# Altium footprint library con-lstb.PCBLIB: 41 footprints (part 2 of 3)
Each footprint in its own frame and in the unit in brackets; x right, y up, seen from the top. Pads: shape width x height; smd on the part's side, far side on the other; paste and mask are expansions set on the pad; w line width, h text height; cw(c..) or ccw(c..) is an arc to the next point about the centre after c.
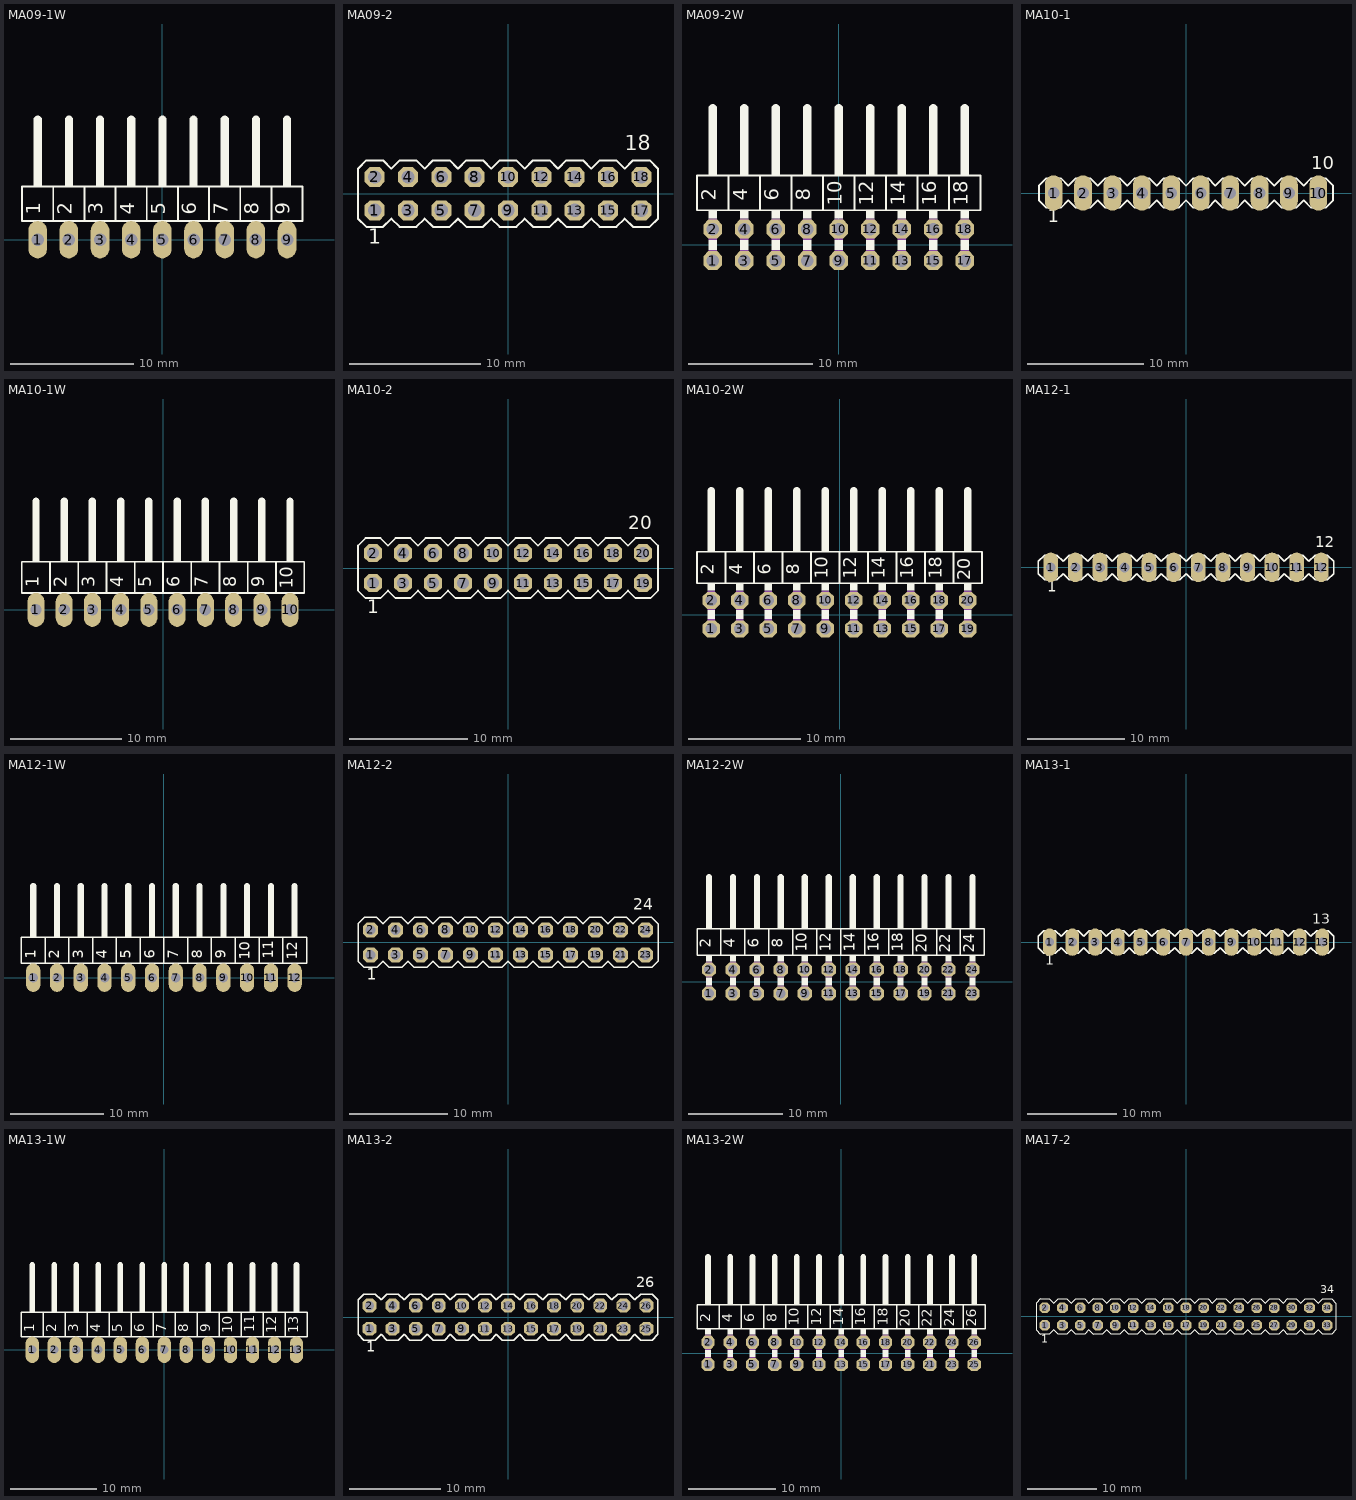
[diagram p1: the footprints below, top view; thin cyan lines are the x and y axes]

## MA09-1W [mil]
pads (9):
  oval 60x120 hole 40: 1(-400,0) 2(-300,0) 3(-200,0) 4(-100,0) 5(0,0) 6(100,0) 7(200,0) 8(300,0) 9(400,0)
Top Overlay:
  rectangle: 87,170 113,200
  rectangle: 187,170 213,200
  rectangle: 287,170 313,200
  rectangle: 387,170 413,200
  rectangle: -413,170 -387,200
  rectangle: -313,170 -287,200
  rectangle: -213,170 -187,200
  rectangle: -113,170 -87,200
  rectangle: -13,170 13,200
  rectangle: 387,34 413,60
  rectangle: 287,34 313,60
  rectangle: 187,34 213,60
  rectangle: 87,34 113,60
  rectangle: -13,34 13,60
  rectangle: -113,34 -87,60
  rectangle: -213,34 -187,60
  rectangle: -313,34 -287,60
  rectangle: -413,34 -387,60
  lines w6: -350,60 -350,170 ; -350,60 -450,60 -450,170 -350,170 ; -350,60 -250,60 ; -350,170 -250,170 ; -250,60 -150,60 ; -250,60 -250,170 ; -250,170 -150,170 ; -150,60 -50,60 ; -150,60 -150,170 ; -150,170 -50,170 ; -50,60 50,60 ; -50,60 -50,170 ; -50,170 50,170 ; 50,60 150,60 ; 50,60 50,170 ; 50,170 150,170 ; 150,60 150,170 ; 150,60 250,60 ; 150,170 250,170 ; 250,60 350,60 ; 250,60 250,170 ; 250,170 350,170 ; 350,60 450,60 450,170 350,170 ; 350,60 350,170
  lines w26: -400,200 -400,385 ; -300,200 -300,385 ; -200,200 -200,385 ; -100,200 -100,385 ; 0,200 0,385 ; 100,200 100,385 ; 200,200 200,385 ; 300,200 300,385 ; 400,200 400,385
  text "1" at -375,80 h77.5
  text "2" at -275,80 h77.5
  text "3" at -175,80 h77.5
  text "4" at -75,80 h77.5
  text "5" at 25,80 h77.5
  text "6" at 125,80 h77.5
  text "7" at 225,80 h77.5
  text "8" at 325,80 h77.5
  text "9" at 425,80 h77.5
Mechanical 16:
  rectangle: 387,-13 413,34
  rectangle: 287,-13 313,34
  rectangle: 187,-13 213,34
  rectangle: 87,-13 113,34
  rectangle: -13,-13 13,34
  rectangle: -113,-13 -87,34
  rectangle: -213,-13 -187,34
  rectangle: -313,-13 -287,34
  rectangle: -413,-13 -387,34

## MA09-2 [mil]
pads (18):
  oct 60x60 hole 40: 1(-400,-50) 2(-400,50) 3(-300,-50) 4(-300,50) 5(-200,-50) 6(-200,50) 7(-100,-50) 8(-100,50) 9(0,-50) 10(0,50) 11(100,-50) 12(100,50) 13(200,-50) 14(200,50) 15(300,-50) 16(300,50) 17(400,-50) 18(400,50)
Top Overlay:
  lines w6: -450,-75 -450,75 -425,100 -375,100 -350,75 -325,100 -275,100 -250,75 -225,100 -175,100 -150,75 -125,100 -75,100 -50,75 -25,100 25,100 50,75 75,100 125,100 150,75 175,100 225,100 250,75 275,100 325,100 350,75 375,100 425,100 450,75 450,-75 425,-100 375,-100 350,-75 325,-100 275,-100 250,-75 225,-100 175,-100 150,-75 125,-100 75,-100 50,-75 25,-100 -25,-100 -50,-75 -75,-100 -125,-100 -150,-75 -175,-100 -225,-100 -250,-75 -275,-100 -325,-100 -350,-75 -375,-100 -425,-100 -450,-75
  text "1" at -420,-165 h77.5
  text "18" at 350,115 h77.5
Mechanical 16:
  rectangle: -310,-60 -290,-40
  rectangle: -410,-60 -390,-40
  rectangle: -210,-60 -190,-40
  rectangle: -10,-60 10,-40
  rectangle: -110,-60 -90,-40
  rectangle: 90,-60 110,-40
  rectangle: -410,40 -390,60
  rectangle: -310,40 -290,60
  rectangle: -210,40 -190,60
  rectangle: -110,40 -90,60
  rectangle: -10,40 10,60
  rectangle: 90,40 110,60
  rectangle: 290,-60 310,-40
  rectangle: 190,-60 210,-40
  rectangle: 190,40 210,60
  rectangle: 290,40 310,60
  rectangle: 390,40 410,60
  rectangle: 390,-60 410,-40

## MA09-2W [mil]
pads (18):
  oct 60x60 hole 40: 1(-400,-50) 2(-400,50) 3(-300,-50) 4(-300,50) 5(-200,-50) 6(-200,50) 7(-100,-50) 8(-100,50) 9(0,-50) 10(0,50) 11(100,-50) 12(100,50) 13(200,-50) 14(200,50) 15(300,-50) 16(300,50) 17(400,-50) 18(400,50)
Top Overlay:
  rectangle: 87,220 113,250
  rectangle: 187,220 213,250
  rectangle: 287,220 313,250
  rectangle: 387,220 413,250
  rectangle: -413,220 -387,250
  rectangle: -313,220 -287,250
  rectangle: -213,220 -187,250
  rectangle: -113,220 -87,250
  rectangle: -13,220 13,250
  rectangle: 387,84 413,110
  rectangle: 287,84 313,110
  rectangle: 187,84 213,110
  rectangle: 87,84 113,110
  rectangle: -13,84 13,110
  rectangle: -113,84 -87,110
  rectangle: -213,84 -187,110
  rectangle: -313,84 -287,110
  rectangle: -413,84 -387,110
  rectangle: -413,-16 -387,16
  rectangle: -313,-16 -287,16
  rectangle: -213,-16 -187,16
  rectangle: -113,-16 -87,16
  rectangle: -13,-16 13,16
  rectangle: 87,-16 113,16
  rectangle: 187,-16 213,16
  rectangle: 287,-16 313,16
  rectangle: 387,-16 413,16
  lines w6: -350,110 -350,220 ; -350,110 -450,110 -450,220 -350,220 ; -350,110 -250,110 ; -350,220 -250,220 ; -250,110 -150,110 ; -250,110 -250,220 ; -250,220 -150,220 ; -150,110 -50,110 ; -150,110 -150,220 ; -150,220 -50,220 ; -50,110 50,110 ; -50,110 -50,220 ; -50,220 50,220 ; 50,110 150,110 ; 50,110 50,220 ; 50,220 150,220 ; 150,110 150,220 ; 150,110 250,110 ; 150,220 250,220 ; 250,110 350,110 ; 250,110 250,220 ; 250,220 350,220 ; 350,110 450,110 450,220 350,220 ; 350,110 350,220
  lines w26: -400,250 -400,435 ; -300,250 -300,435 ; -200,250 -200,435 ; -100,250 -100,435 ; 0,250 0,435 ; 100,250 100,435 ; 200,250 200,435 ; 300,250 300,435 ; 400,250 400,435
  text "18" at 425,125 h77.5
  text "16" at 325,125 h77.5
  text "14" at 225,125 h77.5
  text "12" at 125,125 h77.5
  text "10" at 25,125 h77.5
  text "8" at -75,140 h77.5
  text "6" at -175,140 h77.5
  text "4" at -275,140 h77.5
  text "2" at -375,140 h77.5
Mechanical 16:
  rectangle: -413,16 -387,84
  rectangle: -413,-62 -387,-16
  rectangle: -313,16 -287,84
  rectangle: -313,-62 -287,-16
  rectangle: -213,16 -187,84
  rectangle: -213,-62 -187,-16
  rectangle: -113,16 -87,84
  rectangle: -113,-62 -87,-16
  rectangle: -13,16 13,84
  rectangle: 87,16 113,84
  rectangle: -13,-62 13,-16
  rectangle: 87,-62 113,-16
  rectangle: 187,16 213,84
  rectangle: 187,-62 213,-16
  rectangle: 287,16 313,84
  rectangle: 287,-62 313,-16
  rectangle: 387,16 413,84
  rectangle: 387,-62 413,-16

## MA10-1 [mil]
pads (10):
  oval 60x120 hole 40: 1(-450,0) 2(-350,0) 3(-250,0) 4(-150,0) 5(-50,0) 6(50,0) 7(150,0) 8(250,0) 9(350,0) 10(450,0)
Top Overlay:
  lines w6: -500,-25 -500,25 -475,50 -425,50 -400,25 -375,50 -325,50 -300,25 -275,50 -225,50 -200,25 -175,50 -125,50 -100,25 -75,50 -25,50 0,25 25,50 75,50 100,25 125,50 175,50 200,25 225,50 275,50 300,25 325,50 375,50 400,25 425,50 475,50 500,25 500,-25 475,-50 425,-50 400,-25 375,-50 325,-50 300,-25 275,-50 225,-50 200,-25 175,-50 125,-50 100,-25 75,-50 25,-50 0,-25 -25,-50 -75,-50 -100,-25 -125,-50 -175,-50 -200,-25 -225,-50 -275,-50 -300,-25 -325,-50 -375,-50 -400,-25 -425,-50 -475,-50 -500,-25
  text "1" at -470,-115 h77.5
  text "10" at 425,65 h77.5
Mechanical 16:
  rectangle: -360,-10 -340,10
  rectangle: -460,-10 -440,10
  rectangle: -260,-10 -240,10
  rectangle: -160,-10 -140,10
  rectangle: 40,-10 60,10
  rectangle: -60,-10 -40,10
  rectangle: 140,-10 160,10
  rectangle: 240,-10 260,10
  rectangle: 440,-10 460,10
  rectangle: 340,-10 360,10

## MA10-1W [mil]
pads (10):
  oval 60x120 hole 40: 1(-450,0) 2(-350,0) 3(-250,0) 4(-150,0) 5(-50,0) 6(50,0) 7(150,0) 8(250,0) 9(350,0) 10(450,0)
Top Overlay:
  rectangle: 37,170 63,200
  rectangle: 137,170 163,200
  rectangle: 237,170 263,200
  rectangle: 337,170 363,200
  rectangle: 437,170 463,200
  rectangle: -463,170 -437,200
  rectangle: -363,170 -337,200
  rectangle: -263,170 -237,200
  rectangle: -163,170 -137,200
  rectangle: -63,170 -37,200
  rectangle: 437,34 463,60
  rectangle: 337,34 363,60
  rectangle: 237,34 263,60
  rectangle: 137,34 163,60
  rectangle: 37,34 63,60
  rectangle: -63,34 -37,60
  rectangle: -163,34 -137,60
  rectangle: -263,34 -237,60
  rectangle: -363,34 -337,60
  rectangle: -463,34 -437,60
  lines w6: -400,60 -400,170 ; -400,60 -500,60 -500,170 -400,170 ; -400,60 -300,60 ; -400,170 -300,170 ; -300,60 -200,60 ; -300,60 -300,170 ; -300,170 -200,170 ; -200,60 -100,60 ; -200,60 -200,170 ; -200,170 -100,170 ; -100,60 0,60 ; -100,60 -100,170 ; -100,170 0,170 ; 0,60 100,60 ; 0,60 0,170 ; 0,170 100,170 ; 100,60 100,170 ; 100,60 200,60 ; 100,170 200,170 ; 200,60 300,60 ; 200,60 200,170 ; 200,170 300,170 ; 300,60 400,60 ; 300,60 300,170 ; 300,170 400,170 ; 400,60 500,60 500,170 400,170 ; 400,60 400,170
  lines w26: -450,200 -450,385 ; -350,200 -350,385 ; -250,200 -250,385 ; -150,200 -150,385 ; -50,200 -50,385 ; 50,200 50,385 ; 150,200 150,385 ; 250,200 250,385 ; 350,200 350,385 ; 450,200 450,385
  text "1" at -425,80 h77.5
  text "2" at -325,80 h77.5
  text "3" at -225,80 h77.5
  text "4" at -125,80 h77.5
  text "5" at -25,80 h77.5
  text "6" at 75,80 h77.5
  text "7" at 175,80 h77.5
  text "8" at 275,80 h77.5
  text "9" at 375,80 h77.5
  text "10" at 475,75 h77.5
Mechanical 16:
  rectangle: 437,-13 463,34
  rectangle: 337,-13 363,34
  rectangle: 237,-13 263,34
  rectangle: 137,-13 163,34
  rectangle: 37,-13 63,34
  rectangle: -63,-13 -37,34
  rectangle: -163,-13 -137,34
  rectangle: -263,-13 -237,34
  rectangle: -363,-13 -337,34
  rectangle: -463,-13 -437,34

## MA10-2 [mil]
pads (20):
  oct 60x60 hole 40: 1(-450,-50) 2(-450,50) 3(-350,-50) 4(-350,50) 5(-250,-50) 6(-250,50) 7(-150,-50) 8(-150,50) 9(-50,-50) 10(-50,50) 11(50,-50) 12(50,50) 13(150,-50) 14(150,50) 15(250,-50) 16(250,50) 17(350,-50) 18(350,50) 19(450,-50) 20(450,50)
Top Overlay:
  lines w6: -500,-75 -500,75 -475,100 -425,100 -400,75 -375,100 -325,100 -300,75 -275,100 -225,100 -200,75 -175,100 -125,100 -100,75 -75,100 -25,100 0,75 25,100 75,100 100,75 125,100 175,100 200,75 225,100 275,100 300,75 325,100 375,100 400,75 425,100 475,100 500,75 500,-75 475,-100 425,-100 400,-75 375,-100 325,-100 300,-75 275,-100 225,-100 200,-75 175,-100 125,-100 100,-75 75,-100 25,-100 0,-75 -25,-100 -75,-100 -100,-75 -125,-100 -175,-100 -200,-75 -225,-100 -275,-100 -300,-75 -325,-100 -375,-100 -400,-75 -425,-100 -475,-100 -500,-75
  text "1" at -470,-165 h77.5
  text "20" at 400,115 h77.5
Mechanical 16:
  rectangle: -360,-60 -340,-40
  rectangle: -460,-60 -440,-40
  rectangle: -260,-60 -240,-40
  rectangle: -60,-60 -40,-40
  rectangle: -160,-60 -140,-40
  rectangle: 40,-60 60,-40
  rectangle: -460,40 -440,60
  rectangle: -360,40 -340,60
  rectangle: -260,40 -240,60
  rectangle: -160,40 -140,60
  rectangle: -60,40 -40,60
  rectangle: 40,40 60,60
  rectangle: 240,-60 260,-40
  rectangle: 140,-60 160,-40
  rectangle: 140,40 160,60
  rectangle: 240,40 260,60
  rectangle: 340,40 360,60
  rectangle: 440,40 460,60
  rectangle: 340,-60 360,-40
  rectangle: 440,-60 460,-40

## MA10-2W [mil]
pads (20):
  oct 60x60 hole 40: 1(-450,-50) 2(-450,50) 3(-350,-50) 4(-350,50) 5(-250,-50) 6(-250,50) 7(-150,-50) 8(-150,50) 9(-50,-50) 10(-50,50) 11(50,-50) 12(50,50) 13(150,-50) 14(150,50) 15(250,-50) 16(250,50) 17(350,-50) 18(350,50) 19(450,-50) 20(450,50)
Top Overlay:
  rectangle: 37,220 63,250
  rectangle: 137,220 163,250
  rectangle: 237,220 263,250
  rectangle: 337,220 363,250
  rectangle: 437,220 463,250
  rectangle: -463,220 -437,250
  rectangle: -363,220 -337,250
  rectangle: -263,220 -237,250
  rectangle: -163,220 -137,250
  rectangle: -63,220 -37,250
  rectangle: 437,84 463,110
  rectangle: 337,84 363,110
  rectangle: 237,84 263,110
  rectangle: 137,84 163,110
  rectangle: 37,84 63,110
  rectangle: -63,84 -37,110
  rectangle: -163,84 -137,110
  rectangle: -263,84 -237,110
  rectangle: -363,84 -337,110
  rectangle: -463,84 -437,110
  rectangle: -463,-16 -437,16
  rectangle: -363,-16 -337,16
  rectangle: -263,-16 -237,16
  rectangle: -163,-16 -137,16
  rectangle: -63,-16 -37,16
  rectangle: 37,-16 63,16
  rectangle: 137,-16 163,16
  rectangle: 237,-16 263,16
  rectangle: 337,-16 363,16
  rectangle: 437,-16 463,16
  lines w6: -400,110 -400,220 ; -400,110 -500,110 -500,220 -400,220 ; -400,110 -300,110 ; -400,220 -300,220 ; -300,110 -200,110 ; -300,110 -300,220 ; -300,220 -200,220 ; -200,110 -100,110 ; -200,110 -200,220 ; -200,220 -100,220 ; -100,110 0,110 ; -100,110 -100,220 ; -100,220 0,220 ; 0,110 100,110 ; 0,110 0,220 ; 0,220 100,220 ; 100,110 100,220 ; 100,110 200,110 ; 100,220 200,220 ; 200,110 300,110 ; 200,110 200,220 ; 200,220 300,220 ; 300,110 400,110 ; 300,110 300,220 ; 300,220 400,220 ; 400,110 500,110 500,220 400,220 ; 400,110 400,220
  lines w26: -450,250 -450,435 ; -350,250 -350,435 ; -250,250 -250,435 ; -150,250 -150,435 ; -50,250 -50,435 ; 50,250 50,435 ; 150,250 150,435 ; 250,250 250,435 ; 350,250 350,435 ; 450,250 450,435
  text "20" at 475,120 h77.5
  text "18" at 375,125 h77.5
  text "16" at 275,125 h77.5
  text "14" at 175,125 h77.5
  text "12" at 75,125 h77.5
  text "10" at -25,125 h77.5
  text "8" at -125,140 h77.5
  text "6" at -225,140 h77.5
  text "4" at -325,140 h77.5
  text "2" at -425,140 h77.5
Mechanical 16:
  rectangle: -463,16 -437,84
  rectangle: -463,-62 -437,-16
  rectangle: -363,16 -337,84
  rectangle: -363,-62 -337,-16
  rectangle: -263,16 -237,84
  rectangle: -263,-62 -237,-16
  rectangle: -163,16 -137,84
  rectangle: -163,-62 -137,-16
  rectangle: -63,16 -37,84
  rectangle: 37,16 63,84
  rectangle: -63,-62 -37,-16
  rectangle: 37,-62 63,-16
  rectangle: 137,16 163,84
  rectangle: 137,-62 163,-16
  rectangle: 237,16 263,84
  rectangle: 237,-62 263,-16
  rectangle: 337,16 363,84
  rectangle: 437,16 463,84
  rectangle: 337,-62 363,-16
  rectangle: 437,-62 463,-16

## MA12-1 [mil]
pads (12):
  oval 60x120 hole 40: 1(-550,0) 2(-450,0) 3(-350,0) 4(-250,0) 5(-150,0) 6(-50,0) 7(50,0) 8(150,0) 9(250,0) 10(350,0) 11(450,0) 12(550,0)
Top Overlay:
  lines w6: -600,-25 -600,25 -575,50 -525,50 -500,25 -475,50 -425,50 -400,25 -375,50 -325,50 -300,25 -275,50 -225,50 -200,25 -175,50 -125,50 -100,25 -75,50 -25,50 0,25 25,50 75,50 100,25 125,50 175,50 200,25 225,50 275,50 300,25 325,50 375,50 400,25 425,50 475,50 500,25 525,50 575,50 600,25 600,-25 575,-50 525,-50 500,-25 475,-50 425,-50 400,-25 375,-50 325,-50 300,-25 275,-50 225,-50 200,-25 175,-50 125,-50 100,-25 75,-50 25,-50 0,-25 -25,-50 -75,-50 -100,-25 -125,-50 -175,-50 -200,-25 -225,-50 -275,-50 -300,-25 -325,-50 -375,-50 -400,-25 -425,-50 -475,-50 -500,-25 -525,-50 -575,-50 -600,-25
  text "1" at -565,-115 h77.5
  text "12" at 525,65 h77.5
Mechanical 16:
  rectangle: -460,-10 -440,10
  rectangle: -560,-10 -540,10
  rectangle: -360,-10 -340,10
  rectangle: -160,-10 -140,10
  rectangle: -260,-10 -240,10
  rectangle: -60,-10 -40,10
  rectangle: 140,-10 160,10
  rectangle: 40,-10 60,10
  rectangle: 240,-10 260,10
  rectangle: 440,-10 460,10
  rectangle: 340,-10 360,10
  rectangle: 540,-10 560,10

## MA12-1W [mil]
pads (12):
  oval 60x120 hole 40: 1(-550,0) 2(-450,0) 3(-350,0) 4(-250,0) 5(-150,0) 6(-50,0) 7(50,0) 8(150,0) 9(250,0) 10(350,0) 11(450,0) 12(550,0)
Top Overlay:
  rectangle: 437,170 463,200
  rectangle: 537,170 563,200
  rectangle: -63,170 -37,200
  rectangle: 37,170 63,200
  rectangle: 137,170 163,200
  rectangle: 237,170 263,200
  rectangle: 337,170 363,200
  rectangle: -563,170 -537,200
  rectangle: -463,170 -437,200
  rectangle: -363,170 -337,200
  rectangle: -263,170 -237,200
  rectangle: -163,170 -137,200
  rectangle: 537,34 563,60
  rectangle: 437,34 463,60
  rectangle: 337,34 363,60
  rectangle: 237,34 263,60
  rectangle: 137,34 163,60
  rectangle: 37,34 63,60
  rectangle: -63,34 -37,60
  rectangle: -163,34 -137,60
  rectangle: -263,34 -237,60
  rectangle: -363,34 -337,60
  rectangle: -463,34 -437,60
  rectangle: -563,34 -537,60
  lines w6: -500,60 -500,170 ; -500,60 -600,60 -600,170 -500,170 ; -500,60 -400,60 ; -500,170 -400,170 ; -400,60 -300,60 ; -400,60 -400,170 ; -400,170 -300,170 ; -300,60 -200,60 ; -300,60 -300,170 ; -300,170 -200,170 ; -200,60 -100,60 ; -200,60 -200,170 ; -200,170 -100,170 ; -100,60 0,60 ; -100,60 -100,170 ; -100,170 0,170 ; 0,60 0,170 ; 0,60 100,60 ; 0,170 100,170 ; 100,60 200,60 ; 100,60 100,170 ; 100,170 200,170 ; 200,60 300,60 ; 200,60 200,170 ; 200,170 300,170 ; 300,60 400,60 ; 300,60 300,170 ; 300,170 400,170 ; 400,60 500,60 ; 400,60 400,170 ; 400,170 500,170 ; 500,60 500,170 ; 500,60 600,60 600,170 500,170
  lines w26: -550,200 -550,385 ; -450,200 -450,385 ; -350,200 -350,385 ; -250,200 -250,385 ; -150,200 -150,385 ; -50,200 -50,385 ; 50,200 50,385 ; 150,200 150,385 ; 250,200 250,385 ; 350,200 350,385 ; 450,200 450,385 ; 550,200 550,385
  text "1" at -525,80 h77.5
  text "2" at -425,80 h77.5
  text "3" at -325,80 h77.5
  text "4" at -225,80 h77.5
  text "5" at -125,80 h77.5
  text "6" at -25,80 h77.5
  text "7" at 75,80 h77.5
  text "8" at 175,80 h77.5
  text "9" at 275,80 h77.5
  text "10" at 375,75 h77.5
  text "11" at 475,80 h77.5
  text "12" at 575,75 h77.5
Mechanical 16:
  rectangle: 537,-13 563,34
  rectangle: 437,-13 463,34
  rectangle: 337,-13 363,34
  rectangle: 237,-13 263,34
  rectangle: 137,-13 163,34
  rectangle: 37,-13 63,34
  rectangle: -63,-13 -37,34
  rectangle: -163,-13 -137,34
  rectangle: -263,-13 -237,34
  rectangle: -363,-13 -337,34
  rectangle: -463,-13 -437,34
  rectangle: -563,-13 -537,34

## MA12-2 [mil]
pads (24):
  oct 60x60 hole 40: 1(-550,-50) 2(-550,50) 3(-450,-50) 4(-450,50) 5(-350,-50) 6(-350,50) 7(-250,-50) 8(-250,50) 9(-150,-50) 10(-150,50) 11(-50,-50) 12(-50,50) 13(50,-50) 14(50,50) 15(150,-50) 16(150,50) 17(250,-50) 18(250,50) 19(350,-50) 20(350,50) 21(450,-50) 22(450,50) 23(550,-50) 24(550,50)
Top Overlay:
  lines w6: -600,-75 -600,75 -575,100 -525,100 -500,75 -475,100 -425,100 -400,75 -375,100 -325,100 -300,75 -275,100 -225,100 -200,75 -175,100 -125,100 -100,75 -75,100 -25,100 0,75 25,100 75,100 100,75 125,100 175,100 200,75 225,100 275,100 300,75 325,100 375,100 400,75 425,100 475,100 500,75 525,100 575,100 600,75 600,-75 575,-100 525,-100 500,-75 475,-100 425,-100 400,-75 375,-100 325,-100 300,-75 275,-100 225,-100 200,-75 175,-100 125,-100 100,-75 75,-100 25,-100 0,-75 -25,-100 -75,-100 -100,-75 -125,-100 -175,-100 -200,-75 -225,-100 -275,-100 -300,-75 -325,-100 -375,-100 -400,-75 -425,-100 -475,-100 -500,-75 -525,-100 -575,-100 -600,-75
  text "1" at -565,-165 h77.5
  text "24" at 500,115 h77.5
Mechanical 16:
  rectangle: -460,-60 -440,-40
  rectangle: -560,-60 -540,-40
  rectangle: -360,-60 -340,-40
  rectangle: -160,-60 -140,-40
  rectangle: -260,-60 -240,-40
  rectangle: -60,-60 -40,-40
  rectangle: 140,-60 160,-40
  rectangle: 40,-60 60,-40
  rectangle: 240,-60 260,-40
  rectangle: 440,-60 460,-40
  rectangle: 340,-60 360,-40
  rectangle: 540,-60 560,-40
  rectangle: -560,40 -540,60
  rectangle: -460,40 -440,60
  rectangle: -360,40 -340,60
  rectangle: -260,40 -240,60
  rectangle: -160,40 -140,60
  rectangle: -60,40 -40,60
  rectangle: 40,40 60,60
  rectangle: 140,40 160,60
  rectangle: 240,40 260,60
  rectangle: 340,40 360,60
  rectangle: 440,40 460,60
  rectangle: 540,40 560,60

## MA12-2W [mil]
pads (24):
  oct 60x60 hole 40: 1(-550,-50) 2(-550,50) 3(-450,-50) 4(-450,50) 5(-350,-50) 6(-350,50) 7(-250,-50) 8(-250,50) 9(-150,-50) 10(-150,50) 11(-50,-50) 12(-50,50) 13(50,-50) 14(50,50) 15(150,-50) 16(150,50) 17(250,-50) 18(250,50) 19(350,-50) 20(350,50) 21(450,-50) 22(450,50) 23(550,-50) 24(550,50)
Top Overlay:
  rectangle: 437,220 463,250
  rectangle: 537,220 563,250
  rectangle: -63,220 -37,250
  rectangle: 37,220 63,250
  rectangle: 137,220 163,250
  rectangle: 237,220 263,250
  rectangle: 337,220 363,250
  rectangle: -563,220 -537,250
  rectangle: -463,220 -437,250
  rectangle: -363,220 -337,250
  rectangle: -263,220 -237,250
  rectangle: -163,220 -137,250
  rectangle: 537,84 563,110
  rectangle: 437,84 463,110
  rectangle: 337,84 363,110
  rectangle: 237,84 263,110
  rectangle: 137,84 163,110
  rectangle: 37,84 63,110
  rectangle: -63,84 -37,110
  rectangle: -163,84 -137,110
  rectangle: -263,84 -237,110
  rectangle: -363,84 -337,110
  rectangle: -463,84 -437,110
  rectangle: -563,84 -537,110
  rectangle: -563,-16 -537,16
  rectangle: -463,-16 -437,16
  rectangle: -363,-16 -337,16
  rectangle: -263,-16 -237,16
  rectangle: -163,-16 -137,16
  rectangle: -63,-16 -37,16
  rectangle: 37,-16 63,16
  rectangle: 137,-16 163,16
  rectangle: 237,-16 263,16
  rectangle: 337,-16 363,16
  rectangle: 437,-16 463,16
  rectangle: 537,-16 563,16
  lines w6: -500,110 -500,220 ; -500,110 -600,110 -600,220 -500,220 ; -500,110 -400,110 ; -500,220 -400,220 ; -400,110 -300,110 ; -400,110 -400,220 ; -400,220 -300,220 ; -300,110 -200,110 ; -300,110 -300,220 ; -300,220 -200,220 ; -200,110 -100,110 ; -200,110 -200,220 ; -200,220 -100,220 ; -100,110 0,110 ; -100,110 -100,220 ; -100,220 0,220 ; 0,110 0,220 ; 0,110 100,110 ; 0,220 100,220 ; 100,110 200,110 ; 100,110 100,220 ; 100,220 200,220 ; 200,110 300,110 ; 200,110 200,220 ; 200,220 300,220 ; 300,110 400,110 ; 300,110 300,220 ; 300,220 400,220 ; 400,110 500,110 ; 400,110 400,220 ; 400,220 500,220 ; 500,110 500,220 ; 500,110 600,110 600,220 500,220
  lines w26: -550,250 -550,435 ; -450,250 -450,435 ; -350,250 -350,435 ; -250,250 -250,435 ; -150,250 -150,435 ; -50,250 -50,435 ; 50,250 50,435 ; 150,250 150,435 ; 250,250 250,435 ; 350,250 350,435 ; 450,250 450,435 ; 550,250 550,435
  text "24" at 575,120 h77.5
  text "22" at 475,120 h77.5
  text "20" at 375,120 h77.5
  text "18" at 275,125 h77.5
  text "16" at 175,125 h77.5
  text "14" at 75,125 h77.5
  text "12" at -25,125 h77.5
  text "10" at -125,125 h77.5
  text "8" at -225,140 h77.5
  text "6" at -325,140 h77.5
  text "4" at -425,140 h77.5
  text "2" at -525,140 h77.5
Mechanical 16:
  rectangle: -563,16 -537,84
  rectangle: -563,-62 -537,-16
  rectangle: -463,16 -437,84
  rectangle: -463,-62 -437,-16
  rectangle: -363,16 -337,84
  rectangle: -363,-62 -337,-16
  rectangle: -263,16 -237,84
  rectangle: -263,-62 -237,-16
  rectangle: -163,16 -137,84
  rectangle: -63,16 -37,84
  rectangle: -163,-62 -137,-16
  rectangle: -63,-62 -37,-16
  rectangle: 37,16 63,84
  rectangle: 37,-62 63,-16
  rectangle: 137,16 163,84
  rectangle: 137,-62 163,-16
  rectangle: 237,16 263,84
  rectangle: 337,16 363,84
  rectangle: 237,-62 263,-16
  rectangle: 337,-62 363,-16
  rectangle: 437,16 463,84
  rectangle: 537,16 563,84
  rectangle: 437,-62 463,-16
  rectangle: 537,-62 563,-16

## MA13-1 [mil]
pads (13):
  oval 60x120 hole 40: 1(-600,0) 2(-500,0) 3(-400,0) 4(-300,0) 5(-200,0) 6(-100,0) 7(0,0) 8(100,0) 9(200,0) 10(300,0) 11(400,0) 12(500,0) 13(600,0)
Top Overlay:
  lines w6: -650,-25 -650,25 -625,50 -575,50 -550,25 -525,50 -475,50 -450,25 -425,50 -375,50 -350,25 -325,50 -275,50 -250,25 -225,50 -175,50 -150,25 -125,50 -75,50 -50,25 -25,50 25,50 50,25 75,50 125,50 150,25 175,50 225,50 250,25 275,50 325,50 350,25 375,50 425,50 450,25 475,50 525,50 550,25 575,50 625,50 650,25 650,-25 625,-50 575,-50 550,-25 525,-50 475,-50 450,-25 425,-50 375,-50 350,-25 325,-50 275,-50 250,-25 225,-50 175,-50 150,-25 125,-50 75,-50 50,-25 25,-50 -25,-50 -50,-25 -75,-50 -125,-50 -150,-25 -175,-50 -225,-50 -250,-25 -275,-50 -325,-50 -350,-25 -375,-50 -425,-50 -450,-25 -475,-50 -525,-50 -550,-25 -575,-50 -625,-50 -650,-25
  text "1" at -620,-115 h77.5
  text "13" at 555,65 h77.5
Mechanical 16:
  rectangle: -510,-10 -490,10
  rectangle: -610,-10 -590,10
  rectangle: -410,-10 -390,10
  rectangle: -210,-10 -190,10
  rectangle: -310,-10 -290,10
  rectangle: -110,-10 -90,10
  rectangle: 90,-10 110,10
  rectangle: -10,-10 10,10
  rectangle: 190,-10 210,10
  rectangle: 390,-10 410,10
  rectangle: 290,-10 310,10
  rectangle: 490,-10 510,10
  rectangle: 590,-10 610,10

## MA13-1W [mil]
pads (13):
  oval 60x120 hole 40: 1(-600,0) 2(-500,0) 3(-400,0) 4(-300,0) 5(-200,0) 6(-100,0) 7(0,0) 8(100,0) 9(200,0) 10(300,0) 11(400,0) 12(500,0) 13(600,0)
Top Overlay:
  rectangle: 387,170 413,200
  rectangle: 487,170 513,200
  rectangle: -113,170 -87,200
  rectangle: -13,170 13,200
  rectangle: 87,170 113,200
  rectangle: 187,170 213,200
  rectangle: 287,170 313,200
  rectangle: -613,170 -587,200
  rectangle: -513,170 -487,200
  rectangle: -413,170 -387,200
  rectangle: -313,170 -287,200
  rectangle: -213,170 -187,200
  rectangle: 487,34 513,60
  rectangle: 387,34 413,60
  rectangle: 287,34 313,60
  rectangle: 187,34 213,60
  rectangle: 87,34 113,60
  rectangle: -13,34 13,60
  rectangle: -113,34 -87,60
  rectangle: -213,34 -187,60
  rectangle: -313,34 -287,60
  rectangle: -413,34 -387,60
  rectangle: -513,34 -487,60
  rectangle: -613,34 -587,60
  rectangle: 587,34 613,60
  rectangle: 587,170 613,200
  lines w6: -550,60 -550,170 ; -550,60 -650,60 -650,170 -550,170 ; -550,60 -450,60 ; -550,170 -450,170 ; -450,60 -350,60 ; -450,60 -450,170 ; -450,170 -350,170 ; -350,60 -250,60 ; -350,60 -350,170 ; -350,170 -250,170 ; -250,60 -150,60 ; -250,60 -250,170 ; -250,170 -150,170 ; -150,60 -50,60 ; -150,60 -150,170 ; -150,170 -50,170 ; -50,60 -50,170 ; -50,60 50,60 ; -50,170 50,170 ; 50,60 150,60 ; 50,60 50,170 ; 50,170 150,170 ; 150,60 250,60 ; 150,60 150,170 ; 150,170 250,170 ; 250,60 350,60 ; 250,60 250,170 ; 250,170 350,170 ; 350,60 450,60 ; 350,60 350,170 ; 350,170 450,170 ; 450,60 450,170 ; 450,60 550,60 ; 450,170 550,170 ; 550,60 550,170 ; 550,60 650,60 650,170 550,170
  lines w26: -600,200 -600,385 ; -500,200 -500,385 ; -400,200 -400,385 ; -300,200 -300,385 ; -200,200 -200,385 ; -100,200 -100,385 ; 0,200 0,385 ; 100,200 100,385 ; 200,200 200,385 ; 300,200 300,385 ; 400,200 400,385 ; 500,200 500,385 ; 600,200 600,385
  text "1" at -575,80 h77.5
  text "2" at -475,80 h77.5
  text "3" at -375,80 h77.5
  text "4" at -275,80 h77.5
  text "5" at -175,80 h77.5
  text "6" at -75,80 h77.5
  text "7" at 25,80 h77.5
  text "8" at 125,80 h77.5
  text "9" at 225,80 h77.5
  text "10" at 325,75 h77.5
  text "11" at 425,80 h77.5
  text "12" at 525,75 h77.5
  text "13" at 625,75 h77.5
Mechanical 16:
  rectangle: 487,-13 513,34
  rectangle: 387,-13 413,34
  rectangle: 287,-13 313,34
  rectangle: 187,-13 213,34
  rectangle: 87,-13 113,34
  rectangle: -13,-13 13,34
  rectangle: -113,-13 -87,34
  rectangle: -213,-13 -187,34
  rectangle: -313,-13 -287,34
  rectangle: -413,-13 -387,34
  rectangle: -513,-13 -487,34
  rectangle: -613,-13 -587,34
  rectangle: 587,-13 613,34

## MA13-2 [mil]
pads (26):
  oct 60x60 hole 40: 1(-600,-50) 2(-600,50) 3(-500,-50) 4(-500,50) 5(-400,-50) 6(-400,50) 7(-300,-50) 8(-300,50) 9(-200,-50) 10(-200,50) 11(-100,-50) 12(-100,50) 13(0,-50) 14(0,50) 15(100,-50) 16(100,50) 17(200,-50) 18(200,50) 19(300,-50) 20(300,50) 21(400,-50) 22(400,50) 23(500,-50) 24(500,50) 25(600,-50) 26(600,50)
Top Overlay:
  lines w6: -650,-75 -650,75 -625,100 -575,100 -550,75 -525,100 -475,100 -450,75 -425,100 -375,100 -350,75 -325,100 -275,100 -250,75 -225,100 -175,100 -150,75 -125,100 -75,100 -50,75 -25,100 25,100 50,75 75,100 125,100 150,75 175,100 225,100 250,75 275,100 325,100 350,75 375,100 425,100 450,75 475,100 525,100 550,75 575,100 625,100 650,75 650,-75 625,-100 575,-100 550,-75 525,-100 475,-100 450,-75 425,-100 375,-100 350,-75 325,-100 275,-100 250,-75 225,-100 175,-100 150,-75 125,-100 75,-100 50,-75 25,-100 -25,-100 -50,-75 -75,-100 -125,-100 -150,-75 -175,-100 -225,-100 -250,-75 -275,-100 -325,-100 -350,-75 -375,-100 -425,-100 -450,-75 -475,-100 -525,-100 -550,-75 -575,-100 -625,-100 -650,-75
  text "1" at -615,-165 h77.5
  text "26" at 555,115 h77.5
Mechanical 16:
  rectangle: -510,-60 -490,-40
  rectangle: -610,-60 -590,-40
  rectangle: -410,-60 -390,-40
  rectangle: -210,-60 -190,-40
  rectangle: -310,-60 -290,-40
  rectangle: -110,-60 -90,-40
  rectangle: -610,40 -590,60
  rectangle: -510,40 -490,60
  rectangle: -410,40 -390,60
  rectangle: -310,40 -290,60
  rectangle: -210,40 -190,60
  rectangle: -110,40 -90,60
  rectangle: -10,40 10,60
  rectangle: -10,-60 10,-40
  rectangle: 190,-60 210,-40
  rectangle: 90,-60 110,-40
  rectangle: 290,-60 310,-40
  rectangle: 490,-60 510,-40
  rectangle: 390,-60 410,-40
  rectangle: 590,-60 610,-40
  rectangle: 90,40 110,60
  rectangle: 190,40 210,60
  rectangle: 290,40 310,60
  rectangle: 390,40 410,60
  rectangle: 490,40 510,60
  rectangle: 590,40 610,60

## MA13-2W [mil]
pads (26):
  oct 60x60 hole 40: 1(-600,-50) 2(-600,50) 3(-500,-50) 4(-500,50) 5(-400,-50) 6(-400,50) 7(-300,-50) 8(-300,50) 9(-200,-50) 10(-200,50) 11(-100,-50) 12(-100,50) 13(0,-50) 14(0,50) 15(100,-50) 16(100,50) 17(200,-50) 18(200,50) 19(300,-50) 20(300,50) 21(400,-50) 22(400,50) 23(500,-50) 24(500,50) 25(600,-50) 26(600,50)
Top Overlay:
  rectangle: 387,220 413,250
  rectangle: 487,220 513,250
  rectangle: 587,220 613,250
  rectangle: -113,220 -87,250
  rectangle: -13,220 13,250
  rectangle: 87,220 113,250
  rectangle: 187,220 213,250
  rectangle: 287,220 313,250
  rectangle: -613,220 -587,250
  rectangle: -513,220 -487,250
  rectangle: -413,220 -387,250
  rectangle: -313,220 -287,250
  rectangle: -213,220 -187,250
  rectangle: 587,84 613,110
  rectangle: 487,84 513,110
  rectangle: 387,84 413,110
  rectangle: 287,84 313,110
  rectangle: 187,84 213,110
  rectangle: 87,84 113,110
  rectangle: -13,84 13,110
  rectangle: -113,84 -87,110
  rectangle: -213,84 -187,110
  rectangle: -313,84 -287,110
  rectangle: -413,84 -387,110
  rectangle: -513,84 -487,110
  rectangle: -613,84 -587,110
  rectangle: -613,-16 -587,16
  rectangle: -513,-16 -487,16
  rectangle: -413,-16 -387,16
  rectangle: -313,-16 -287,16
  rectangle: -213,-16 -187,16
  rectangle: -113,-16 -87,16
  rectangle: -13,-16 13,16
  rectangle: 87,-16 113,16
  rectangle: 187,-16 213,16
  rectangle: 287,-16 313,16
  rectangle: 387,-16 413,16
  rectangle: 487,-16 513,16
  rectangle: 587,-16 613,16
  lines w6: -550,110 -550,220 ; -550,110 -650,110 -650,220 -550,220 ; -550,110 -450,110 ; -550,220 -450,220 ; -450,110 -350,110 ; -450,110 -450,220 ; -450,220 -350,220 ; -350,110 -250,110 ; -350,110 -350,220 ; -350,220 -250,220 ; -250,110 -150,110 ; -250,110 -250,220 ; -250,220 -150,220 ; -150,110 -50,110 ; -150,110 -150,220 ; -150,220 -50,220 ; -50,110 -50,220 ; -50,110 50,110 ; -50,220 50,220 ; 50,110 150,110 ; 50,110 50,220 ; 50,220 150,220 ; 150,110 250,110 ; 150,110 150,220 ; 150,220 250,220 ; 250,110 350,110 ; 250,110 250,220 ; 250,220 350,220 ; 350,110 450,110 ; 350,110 350,220 ; 350,220 450,220 ; 450,110 450,220 ; 450,110 550,110 ; 450,220 550,220 ; 550,110 650,110 650,220 550,220 ; 550,110 550,220
  lines w26: -600,250 -600,435 ; -500,250 -500,435 ; -400,250 -400,435 ; -300,250 -300,435 ; -200,250 -200,435 ; -100,250 -100,435 ; 0,250 0,435 ; 100,250 100,435 ; 200,250 200,435 ; 300,250 300,435 ; 400,250 400,435 ; 500,250 500,435 ; 600,250 600,435
  text "26" at 625,120 h77.5
  text "24" at 525,120 h77.5
  text "22" at 425,120 h77.5
  text "20" at 325,120 h77.5
  text "18" at 225,125 h77.5
  text "16" at 125,125 h77.5
  text "14" at 25,125 h77.5
  text "12" at -75,125 h77.5
  text "10" at -175,125 h77.5
  text "8" at -275,140 h77.5
  text "6" at -375,140 h77.5
  text "4" at -475,140 h77.5
  text "2" at -575,140 h77.5
Mechanical 16:
  rectangle: -613,16 -587,84
  rectangle: -613,-62 -587,-16
  rectangle: -513,16 -487,84
  rectangle: -513,-62 -487,-16
  rectangle: -413,16 -387,84
  rectangle: -413,-62 -387,-16
  rectangle: -313,16 -287,84
  rectangle: -313,-62 -287,-16
  rectangle: -213,16 -187,84
  rectangle: -113,16 -87,84
  rectangle: -213,-62 -187,-16
  rectangle: -113,-62 -87,-16
  rectangle: -13,16 13,84
  rectangle: -13,-62 13,-16
  rectangle: 87,16 113,84
  rectangle: 87,-62 113,-16
  rectangle: 187,16 213,84
  rectangle: 287,16 313,84
  rectangle: 187,-62 213,-16
  rectangle: 287,-62 313,-16
  rectangle: 387,16 413,84
  rectangle: 487,16 513,84
  rectangle: 587,16 613,84
  rectangle: 387,-62 413,-16
  rectangle: 487,-62 513,-16
  rectangle: 587,-62 613,-16

## MA17-2 [mil]
pads (34):
  oct 60x60 hole 40: 1(-800,-50) 2(-800,50) 3(-700,-50) 4(-700,50) 5(-600,-50) 6(-600,50) 7(-500,-50) 8(-500,50) 9(-400,-50) 10(-400,50) 11(-300,-50) 12(-300,50) 13(-200,-50) 14(-200,50) 15(-100,-50) 16(-100,50) 17(0,-50) 18(0,50) 19(100,-50) 20(100,50) 21(200,-50) 22(200,50) 23(300,-50) 24(300,50) 25(400,-50) 26(400,50) 27(500,-50) 28(500,50) 29(600,-50) 30(600,50) 31(700,-50) 32(700,50) 33(800,-50) 34(800,50)
Top Overlay:
  lines w6: -850,-75 -850,75 -825,100 -775,100 -750,75 -725,100 -675,100 -650,75 -625,100 -575,100 -550,75 -525,100 -475,100 -450,75 -425,100 -375,100 -350,75 -325,100 -275,100 -250,75 -225,100 -175,100 -150,75 -125,100 -75,100 -50,75 -25,100 25,100 50,75 75,100 125,100 150,75 175,100 225,100 250,75 275,100 325,100 350,75 375,100 425,100 450,75 475,100 525,100 550,75 575,100 625,100 650,75 675,100 725,100 750,75 775,100 825,100 850,75 850,-75 825,-100 775,-100 750,-75 725,-100 675,-100 650,-75 625,-100 575,-100 550,-75 525,-100 475,-100 450,-75 425,-100 375,-100 350,-75 325,-100 275,-100 250,-75 225,-100 175,-100 150,-75 125,-100 75,-100 50,-75 25,-100 -25,-100 -50,-75 -75,-100 -125,-100 -150,-75 -175,-100 -225,-100 -250,-75 -275,-100 -325,-100 -350,-75 -375,-100 -425,-100 -450,-75 -475,-100 -525,-100 -550,-75 -575,-100 -625,-100 -650,-75 -675,-100 -725,-100 -750,-75 -775,-100 -825,-100 -850,-75
  text "1" at -820,-165 h77.5
  text "34" at 760,115 h77.5
Mechanical 16:
  rectangle: -710,-60 -690,-40
  rectangle: -810,-60 -790,-40
  rectangle: -610,-60 -590,-40
  rectangle: -410,-60 -390,-40
  rectangle: -510,-60 -490,-40
  rectangle: -310,-60 -290,-40
  rectangle: -810,40 -790,60
  rectangle: -710,40 -690,60
  rectangle: -610,40 -590,60
  rectangle: -510,40 -490,60
  rectangle: -410,40 -390,60
  rectangle: -310,40 -290,60
  rectangle: -210,40 -190,60
  rectangle: -210,-60 -190,-40
  rectangle: -10,-60 10,-40
  rectangle: -110,-60 -90,-40
  rectangle: 90,-60 110,-40
  rectangle: 290,-60 310,-40
  rectangle: 190,-60 210,-40
  rectangle: 390,-60 410,-40
  rectangle: -110,40 -90,60
  rectangle: -10,40 10,60
  rectangle: 90,40 110,60
  rectangle: 190,40 210,60
  rectangle: 290,40 310,60
  rectangle: 390,40 410,60
  rectangle: 490,40 510,60
  rectangle: 490,-60 510,-40
  rectangle: 690,-60 710,-40
  rectangle: 590,-60 610,-40
  rectangle: 790,-60 810,-40
  rectangle: 590,40 610,60
  rectangle: 690,40 710,60
  rectangle: 790,40 810,60